# EAGLE library part E5J88-00LJG2-L (library SamacSys_Parts)
Modular Connectors / Ethernet Connectors RJ45 SIDE ENTRY THT Source: Datasheet <http://productfinder.pulseeng.com/products/datasheets/E5J88-00LJG2-L.pdf>
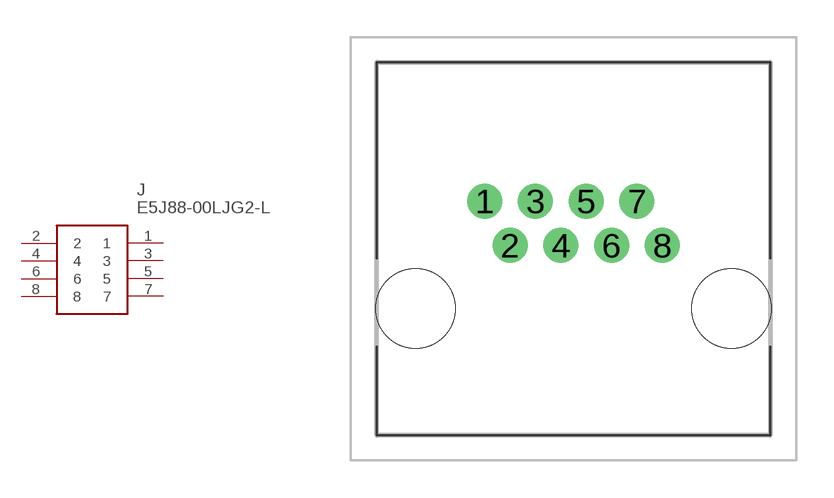
[diagram p1: symbol with the pads of E5J8800LJG2L; footprint E5J8800LJG2L]

Designator prefix J

## E5J88-00LJG2-L (Description: Modular Connectors / Ethernet Connectors RJ45 SIDE ENTRY THT; Height: 12mm; Manufacturer_Name: Pulse; Manufacturer_Part_Number: E5J88-00LJG2-L; Mouser_Part_Number: 673-E5J88-00LJG2-L; Mouser_Price-Stock: https://www.mouser.co.uk/ProductDetail/Pulse-Electronics/E5J88-00LJG2-L?qs=wkzZgEj%252B4jW1hqaz5sBHZw%3D%3D)  [E5J8800LJG2L]
1  1
2  2
3  3
4  4
5  5
6  6
7  7
8  8

## Footprint E5J8800LJG2L (pad centres in mm)
E5J88-00LJG2-L
drill 0.9 pad 1.4: 1 -3.57,1.92; 2 -2.55,0.14; 3 -1.53,1.92; 4 -0.51,0.14; 5 0.51,1.92; 6 1.53,0.14; 7 2.55,1.92; 8 3.57,0.14
hole 3.2 at -6.35,-2.4
hole 3.2 at 6.35,-2.4